# Altium footprint library SparkFun-IC-Amplifiers.PCBLIB: 9 footprints
Each footprint in its own frame and in the unit in brackets; x right, y up, seen from the top. Pads: shape width x height; smd on the part's side, far side on the other; paste and mask are expansions set on the pad; w line width, h text height; cw(c..) or ccw(c..) is an arc to the next point about the centre after c.
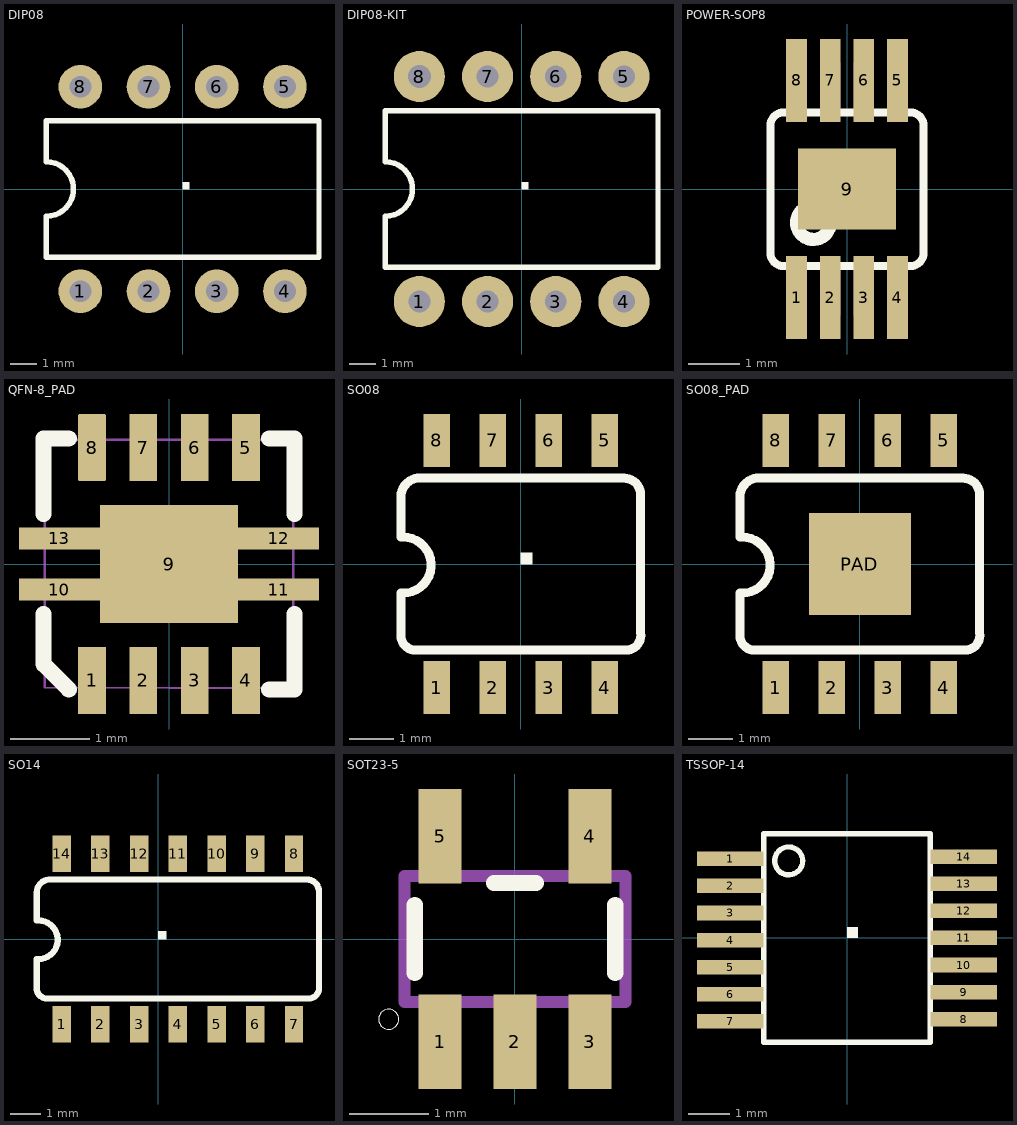
[diagram p0: the footprints below, top view; thin cyan lines are the x and y axes]

## DIP08 [mil]
pads (8):
  round 64 hole 32: 1(-150,-150) 2(-50,-150) 3(50,-150) 4(150,-150) 5(150,150) 6(50,150) 7(-50,150) 8(-150,150)
Top Overlay:
  region: 0,0 10,0 10,10 0,10
  lines w8: -200,-100 200,-100 200,100 -200,100 -200,40 cw(c-200,0) -200,-40 -200,-100

## DIP08-KIT [mil]
pads (8):
  round 75 hole 32: 1(-150,-165) 2(-50,-165) 3(50,-165) 4(150,-165) 5(150,165) 6(50,165) 7(-50,165)
  round 75 hole 34: 8(-150,165)
Top Overlay:
  region: 0,0 10,0 10,10 0,10
  lines w8: -200,-115 -200,-40 ccw(c-200,0) -200,40 -200,115 200,115 200,-115 -200,-115
Top Solder:
  circle w0: c-150,165 r17
  circle w0: c-50,165 r17
  circle w0: c50,165 r17
  circle w0: c150,165 r17
  circle w0: c-150,-165 r17
  circle w0: c-50,-165 r17
  circle w0: c50,-165 r17
  circle w0: c150,-165 r17
Bottom Solder:
  circle w0: c-150,165 r42
  circle w0: c-50,165 r42
  circle w0: c50,165 r42
  circle w0: c150,165 r42
  circle w0: c-150,-165 r42
  circle w0: c-50,-165 r42
  circle w0: c50,-165 r42
  circle w0: c150,-165 r42

## POWER-SOP8 [mm]
pads (9):
  rect 0.4x1.6 smd: 1(-0.975,-2.1) 2(-0.325,-2.1) 3(0.325,-2.1) 4(0.975,-2.1) 5(0.975,2.1) 6(0.325,2.1) 7(-0.325,2.1) 8(-0.975,2.1)
  rect 1.89x1.57 smd: 9(0,0)
Top Overlay:
  circle w0.254: c-0.65,-0.65 r0.325
  region: 0,0 0.254,0 0.254,0.254 0,0.254
  lines w0.152: -1.48,-1.24 ccw(c-1.23,-1.24) -1.23,-1.49 ; -1.48,-1.23 -1.48,1.23 cw(c-1.23,1.23) -1.23,1.48 ; -1.22,-1.49 1.24,-1.49 ; -1.22,1.48 1.24,1.48 ; 1.23,-1.49 ccw(c1.23,-1.24) 1.48,-1.24 1.48,1.23 ccw(c1.23,1.23) 1.23,1.48
Mechanical 16:
  rectangle: -1.175,-2.45 -0.775,-1.55
  rectangle: -0.525,-2.45 -0.125,-1.55
  rectangle: 0.125,-2.45 0.525,-1.55
  rectangle: 0.775,-2.45 1.175,-1.55
  rectangle: 0.775,1.55 1.175,2.45
  rectangle: 0.125,1.55 0.525,2.45
  rectangle: -0.525,1.55 -0.125,2.45
  rectangle: -1.175,1.55 -0.775,2.45

## QFN-8_PAD [mm]
pads (13):
  rect 0.35x0.85 smd: 1(-0.975,-1.475) 2(-0.325,-1.475) 3(0.325,-1.475) 4(0.975,-1.475) 5(0.975,1.475) 6(0.325,1.475) 7(-0.325,1.475)
  rrect10% 0.35x0.85 smd: 8(-0.975,1.475)
  rect 1.75x1.5 smd: 9(0,0)
  rect 1.025x0.28 smd: 10(-1.388,-0.325) 11(1.388,-0.325) 12(1.388,0.325) 13(-1.388,0.325)
Top Layer keep-out:
  region: 0,0 0.254,0 0.254,0.254 0,0.254
  region: 0,0 0.254,0 0.254,0.254 0,0.254
Top Overlay:
  region: 0,0 0.254,0 0.254,0.254 0,0.254
  lines w0.203: -1.587,-0.635 -1.587,-1.27 -1.27,-1.587 ; -1.587,0.635 -1.587,1.587 -1.27,1.587 ; 1.27,-1.587 1.587,-1.587 1.587,-0.635 ; 1.27,1.587 1.587,1.587 1.587,0.635
Top Paste:
  region: 0.875,0.75 -0.875,0.75 -0.875,-0.75 0.875,-0.75
Mechanical 16:
  lines w0.03: -1.575,-1.565 1.575,-1.575 1.575,1.575 -1.575,1.575 -1.575,-1.565

## SO08 [mil]
pads (8):
  rect 23.62x47.24 smd: 1(-75,-110.24) 2(-25,-110.24) 3(25,-110.24) 4(75,-110.24) 5(75,110.24) 6(25,110.24) 7(-25,110.24) 8(-75,110.24)
Top Overlay:
  region: 0,0 10,0 10,10 0,10
  lines w8: -107,-26 -107,-65.56 ccw(c-93.97,-63.6) -92,-76.63 95.94,-76.63 ccw(c93.97,-63.6) 107,-61.63 107,61.63 ccw(c92,61.63) 92,76.63 -92,76.63 ccw(c-90.03,59.66) -107,57.69 ; -107,24 -107,57.19 ; -105,-26 ccw(c-105,-1) -105,24
Mechanical 16:
  rectangle: -85,-130 -65,-89.5
  rectangle: -35,-130 -15,-89.5
  rectangle: 15,-130 35,-89.5
  rectangle: 65,-130 85,-89.5
  rectangle: -35,90 -15,130
  rectangle: 15,90 35,130
  rectangle: 65,90 85,130
  rectangle: -85,90 -65,130

## SO08_PAD [mil]
pads (9):
  rect 23.62x47.24 smd: 1(-75,-110.24) 2(-25,-110.24) 3(25,-110.24) 4(75,-110.24) 5(75,110.24) 6(25,110.24) 7(-25,110.24) 8(-75,110.24)
  rect 91x91 smd: PAD(0,0)
Top Overlay:
  region: 0,0 10,0 10,10 0,10
  lines w8: -107,-26 -107,-65.56 ccw(c-93.97,-63.6) -92,-76.63 95.94,-76.63 ccw(c93.97,-63.6) 107,-61.63 107,61.63 ccw(c92,61.63) 92,76.63 -92,76.63 ccw(c-90.03,59.66) -107,57.69 ; -107,24 -107,57.19 ; -105,-26 ccw(c-105,-1) -105,24
Mechanical 16:
  rectangle: -85,-130 -65,-89.5
  rectangle: -35,-130 -15,-89.5
  rectangle: 15,-130 35,-89.5
  rectangle: 65,-130 85,-89.5
  rectangle: -35,90 -15,130
  rectangle: 15,90 35,130
  rectangle: 65,90 85,130
  rectangle: -85,90 -65,130

## SO14 [mil]
pads (14):
  rect 23.62x47.24 smd: 1(-125,-110.24) 2(-75,-110.24) 3(-25,-110.24) 4(25,-110.24) 5(75,-110.24) 6(125,-110.24) 7(175,-110.24) 8(175,110.24) 9(125,110.24) 10(75,110.24) 11(25,110.24) 12(-25,110.24) 13(-75,110.24) 14(-125,110.24)
Top Overlay:
  region: 0,0 10,0 10,10 0,10
  lines w8: -157,-26 -157,-65.56 ccw(c-143.97,-63.6) -142,-76.63 195.94,-76.63 ccw(c193.97,-63.6) 207,-61.63 207,61.63 ccw(c192,61.63) 192,76.63 -142,76.63 ccw(c-140.03,59.66) -157,57.69 ; -157,24 -157,57.19 ; -155,-26 ccw(c-155,-1) -155,24
Mechanical 16:
  rectangle: -135,-130 -115,-89.5
  rectangle: -85,-130 -65,-89.5
  rectangle: -35,-130 -15,-89.5
  rectangle: 15,-130 35,-89.5
  rectangle: 65,-130 85,-89.5
  rectangle: 115,-130 135,-89.5
  rectangle: 165,-130 185,-89.5
  rectangle: -85,90 -65,130
  rectangle: -35,90 -15,130
  rectangle: 15,90 35,130
  rectangle: 65,90 85,130
  rectangle: 115,90 135,130
  rectangle: 165,90 185,130
  rectangle: -135,90 -115,130

## SOT23-5 [mil]
pads (5):
  rect 21.65x47.24 smd: 1(-37.4,-51.19) 2(0,-51.19) 3(37.4,-51.19) 4(37.4,51.19) 5(-37.4,51.19)
Top Overlay:
  circle w0: c-63,-40 r5
  lines w8: -50,-16.91 -50,16.91 ; -10.57,27.91 10.57,27.91 ; 50,-16.91 50,16.91
Mechanical 16:
  rectangle: -47.24,-59.06 -27.56,-33.46
  rectangle: -9.84,-59.06 9.84,-33.46
  rectangle: 27.56,-59.06 47.24,-33.46
  rectangle: 27.56,33.46 47.24,59.06
  rectangle: -47.24,33.46 -27.56,59.06
  lines w6: -55.12,-31.5 55.12,-31.5 55.12,31.5 -55.12,31.5 -55.12,-31.5

## TSSOP-14 [mm]
pads (14):
  rect 1.6x0.35 smd: 1(-2.8,1.9) 2(-2.8,1.25) 3(-2.8,0.6) 4(-2.8,-0.05) 5(-2.8,-0.7) 6(-2.8,-1.35) 7(-2.8,-2) 8(2.8,-1.95) 9(2.8,-1.3) 10(2.8,-0.65) 11(2.8,0) 12(2.8,0.65) 13(2.8,1.3) 14(2.8,1.95)
Top Overlay:
  circle w0.127: c-1.4,1.85 r0.336
  region: 0,0 0.254,0 0.254,0.254 0,0.254
  lines w0.127: -2,-2.5 -2,2.5 2,2.5 2,-2.5 -2,-2.5